# Altium integrated library TI Logic Buffer Line Driver.IntLib: 1053 symbols (part 1 of 17)
Pins are listed as number, name and electrical type; pins without a type are passive.

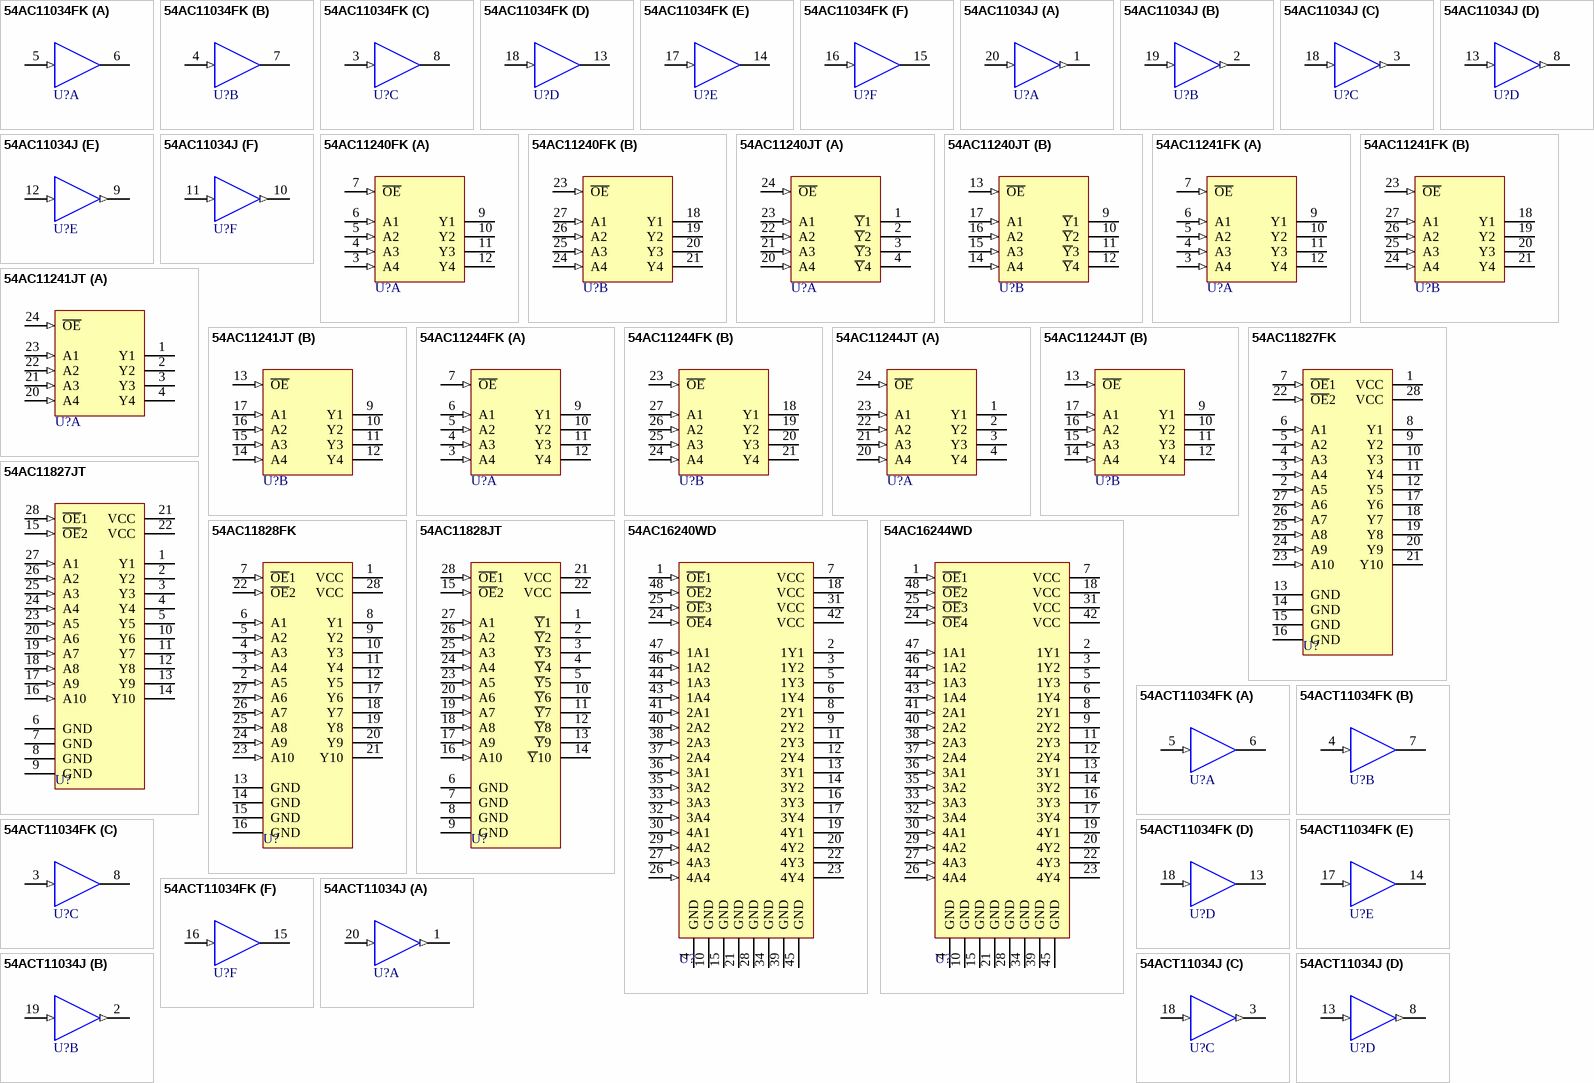
[diagram p0: symbols 54AC11034FK to 54ACT11034J]

## 54AC11034FK
designator U?
Hex Non-Inverter; Package Information: Latest Revision: 1998; Note: Pins No 2 and 19 are not connected; Published: 8-Jun-2000; Revision: 17-Jul-2002: Re-released for DXP Platform.; Datasheet: Latest Revision: Apr-1993; Package Reference: FK020; Publisher: Altium Limited
footprint FK020 (Leadless Chip Carrier; 20 Terminals; Body 8.9 x 8.9 mm)
signal-integrity model 54AC11034FK
pins on every part: 1 VCC (power) hidden to VCC, 9 GND (power) hidden to GND, 10 GND (power) hidden to GND, 11 GND (power) hidden to GND, 12 GND (power) hidden to GND, 20 VCC (power) hidden to VCC
part A pins: 5 A (in), 6 Y (hiz)
part B pins: 4 A (in), 7 Y (hiz)
part C pins: 3 A (in), 8 Y (hiz)
part D pins: 13 Y (hiz), 18 A (in)
part E pins: 14 Y (hiz), 17 A (in)
part F pins: 15 Y (hiz), 16 A (in)

## 54AC11034J
designator U?
Hex Non-Inverter; Revision 1: 16-Jan-2001: Symbol size reduced. Output electrical type changed from HiZ to Output.; Revision 2: 17-Jul-2002: Re-released for DXP Platform.; Package Information: Latest Revision: Jun-1999; Published: 8-Jun-2000; Datasheet: Latest Revision: Apr-1993; Package Reference: J020; Publisher: Altium Limited
footprint J020 (DIP; 20 Leads; Row Spacing 7.62 mm; Pitch 2.54 mm)
signal-integrity model 54AC11034J
pins on every part: 4 GND (power) hidden to GND, 5 GND (power) hidden to GND, 6 GND (power) hidden to GND, 7 GND (power) hidden to GND, 15 VCC (power) hidden to VCC, 16 VCC (power) hidden to VCC
part A pins: 1 Y (out), 20 A (in)
part B pins: 2 Y (out), 19 A (in)
part C pins: 3 Y (out), 18 A (in)
part D pins: 8 Y (out), 13 A (in)
part E pins: 9 Y (out), 12 A (in)
part F pins: 10 Y (out), 11 A (in)

## 54AC11240FK
designator U?
Octal Buffer and Line Driver with 3-State Outputs; Package Information: Latest Revision: 1998; Note: Pins No 1,8,15 and 22 are not connected; Published: 8-Jun-2000; Revision: 17-Jul-2002: Re-released for DXP Platform.; Datasheet: 1990 Advanced CMOS Logic Data Book (Mar-1990); Package Reference: FK028D; Publisher: Altium Limited
footprint FK028D (Leadless Chip Carrier; 28 Terminals; Body 11.4 x 11.4 mm)
signal-integrity model 54AC11240FK
pins on every part: 2 VCC (power) hidden to VCC, 13 GND (power) hidden to GND, 14 GND (power) hidden to GND, 16 GND (power) hidden to GND, 17 GND (power) hidden to GND, 28 VCC (power) hidden to VCC
part A pins: 3 A4 (in), 4 A3 (in), 5 A2 (in), 6 A1 (in), 7 ~{OE} (in), 9 Y1 (hiz), 10 Y2 (hiz), 11 Y3 (hiz), 12 Y4 (hiz)
part B pins: 18 Y1 (hiz), 19 Y2 (hiz), 20 Y3 (hiz), 21 Y4 (hiz), 23 ~{OE} (in), 24 A4 (in), 25 A3 (in), 26 A2 (in), 27 A1 (in)

## 54AC11240JT
designator U?
Octal Buffer and Line Driver with 3-State Outputs; Package Information: Latest Revision: Jan-1997; Code - JEDEC: MS-001-AF; Published: 8-Jun-2000; Revision: 17-Jul-2002: Re-released for DXP Platform.; Datasheet: 1990 Advanced CMOS Logic Data Book (Mar-1990); Package Reference: JT024D; Publisher: Altium Limited
footprint JT024D (DIP; 24 Leads; Row Spacing 7.62 mm; Pitch 2.54 mm)
signal-integrity model 54AC11240JT
pins on every part: 5 GND (power) hidden to GND, 6 GND (power) hidden to GND, 7 GND (power) hidden to GND, 8 GND (power) hidden to GND, 18 VCC (power) hidden to VCC, 19 VCC (power) hidden to VCC
part A pins: 1 ~{Y}1 (hiz), 2 ~{Y}2 (hiz), 3 ~{Y}3 (hiz), 4 ~{Y}4 (hiz), 20 A4 (in), 21 A3 (in), 22 A2 (in), 23 A1 (in), 24 ~{OE} (in)
part B pins: 9 ~{Y}1 (hiz), 10 ~{Y}2 (hiz), 11 ~{Y}3 (hiz), 12 ~{Y}4 (hiz), 13 ~{OE} (in), 14 A4 (in), 15 A3 (in), 16 A2 (in), 17 A1 (in)

## 54AC11241FK
designator U?
Octal Buffer/Line Driver with 3-State Outputs; Package Information: Latest Revision: 1998; Note: Pins No 1,8,15 and 22 are not connected; Published: 8-Jun-2000; Revision: 17-Jul-2002: Re-released for DXP Platform.; Datasheet: Latest Revision: Apr-1993; Package Reference: FK028; Publisher: Altium Limited
footprint FK028 (Leadless Chip Carrier; 28 Terminals; Body 11.4 x 11.4 mm)
signal-integrity model 54AC11241FK
pins on every part: 2 VCC (power) hidden to VCC, 13 GND (power) hidden to GND, 14 GND (power) hidden to GND, 16 GND (power) hidden to GND, 17 GND (power) hidden to GND, 28 VCC (power) hidden to VCC
part A pins: 3 A4 (in), 4 A3 (in), 5 A2 (in), 6 A1 (in), 7 ~{OE} (in), 9 Y1 (hiz), 10 Y2 (hiz), 11 Y3 (hiz), 12 Y4 (hiz)
part B pins: 18 Y1 (hiz), 19 Y2 (hiz), 20 Y3 (hiz), 21 Y4 (hiz), 23 ~{OE} (in), 24 A4 (in), 25 A3 (in), 26 A2 (in), 27 A1 (in)

## 54AC11241JT
designator U?
Octal Buffer/Line Driver with 3-State Outputs; Package Information: Latest Revision: Jan-1997; Code - JEDEC: MS-001-AF; Published: 8-Jun-2000; Revision: 17-Jul-2002: Re-released for DXP Platform.; Datasheet: Latest Revision: Apr-1993; Package Reference: JT024; Publisher: Altium Limited
footprint JT024 (DIP; 24 Leads; Row Spacing 7.62 mm; Pitch 2.54 mm)
signal-integrity model 54AC11241JT
pins on every part: 5 GND (power) hidden to GND, 6 GND (power) hidden to GND, 7 GND (power) hidden to GND, 8 GND (power) hidden to GND, 18 VCC (power) hidden to VCC, 19 VCC (power) hidden to VCC
part A pins: 1 Y1 (hiz), 2 Y2 (hiz), 3 Y3 (hiz), 4 Y4 (hiz), 20 A4 (in), 21 A3 (in), 22 A2 (in), 23 A1 (in), 24 ~{OE} (in)
part B pins: 9 Y1 (hiz), 10 Y2 (hiz), 11 Y3 (hiz), 12 Y4 (hiz), 13 ~{OE} (in), 14 A4 (in), 15 A3 (in), 16 A2 (in), 17 A1 (in)

## 54AC11244FK
designator U?
Octal Buffer and Line Driver with 3-State Outputs; Package Information: Latest Revision: 1998; Note: Pins 1, 8, 15, and 22 are not connected; Published: 8-Jun-2000; Revision: 17-Jul-2002: Re-released for DXP Platform.; Datasheet: 1990 Advanced CMOS Logic Data Book (Mar-1990); Package Reference: FK028D; Publisher: Altium Limited
footprint FK028D (Leadless Chip Carrier; 28 Terminals; Body 11.4 x 11.4 mm)
signal-integrity model 54AC11244FK
pins on every part: 2 VCC (power) hidden to VCC, 13 GND (power) hidden to GND, 14 GND (power) hidden to GND, 16 GND (power) hidden to GND, 17 GND (power) hidden to GND, 28 VCC (power) hidden to VCC
part A pins: 3 A4 (in), 4 A3 (in), 5 A2 (in), 6 A1 (in), 7 ~{OE} (in), 9 Y1 (hiz), 10 Y2 (hiz), 11 Y3 (hiz), 12 Y4 (hiz)
part B pins: 18 Y1 (hiz), 19 Y2 (hiz), 20 Y3 (hiz), 21 Y4 (hiz), 23 ~{OE} (in), 24 A4 (in), 25 A3 (in), 26 A2 (in), 27 A1 (in)

## 54AC11244JT
designator U?
Octal Buffer and Line Driver with 3-State Outputs; Package Information: Latest Revision: Jan-1997; Code - JEDEC: MS-001-AF; Published: 8-Jun-2000; Revision: 17-Jul-2002: Re-released for DXP Platform.; Datasheet: 1990 Advanced CMOS Logic Data Book (Mar-1990); Package Reference: JT024D; Publisher: Altium Limited
footprint JT024D (DIP; 24 Leads; Row Spacing 7.62 mm; Pitch 2.54 mm)
signal-integrity model 54AC11244JT
pins on every part: 5 GND (power) hidden to GND, 6 GND (power) hidden to GND, 7 GND (power) hidden to GND, 8 GND (power) hidden to GND, 18 VCC (power) hidden to VCC, 19 VCC (power) hidden to VCC
part A pins: 1 Y1 (hiz), 2 Y2 (hiz), 3 Y3 (hiz), 4 Y4 (hiz), 20 A4 (in), 21 A3 (in), 22 A2 (in), 23 A1 (in), 24 ~{OE} (in)
part B pins: 9 Y1 (hiz), 10 Y2 (hiz), 11 Y3 (hiz), 12 Y4 (hiz), 13 ~{OE} (in), 14 A4 (in), 15 A3 (in), 16 A2 (in), 17 A1 (in)

## 54AC11827FK
designator U?
10-Bit Buffer/Bus Driver with 3-State Outputs; Package Information: Latest Revision: 1998; Published: 8-Jun-2000; Revision: 17-Jul-2002: Re-released for DXP Platform.; Datasheet: 1990 Advanced CMOS Logic Data Book (Mar-1990); Package Reference: FK028D; Publisher: Altium Limited
footprint FK028D (Leadless Chip Carrier; 28 Terminals; Body 11.4 x 11.4 mm)
signal-integrity model 54AC11827FK
pins: 1 VCC (power), 2 A5 (in), 3 A4 (in), 4 A3 (in), 5 A2 (in), 6 A1 (in), 7 ~{OE}1 (in), 8 Y1 (hiz), 9 Y2 (hiz), 10 Y3 (hiz), 11 Y4 (hiz), 12 Y5 (hiz), 13 GND (power), 14 GND (power), 15 GND (power), 16 GND (power), 17 Y6 (hiz), 18 Y7 (hiz), 19 Y8 (hiz), 20 Y9 (hiz), 21 Y10 (hiz), 22 ~{OE}2 (in), 23 A10 (in), 24 A9 (in), 25 A8 (in), 26 A7 (in), 27 A6 (in), 28 VCC (power)

## 54AC11827JT
designator U?
10-Bit Buffer/Bus Driver with 3-State Outputs; Package Information: Latest Revision: Jan-1997; Published: 8-Jun-2000; Revision: 17-Jul-2002: Re-released for DXP Platform.; Datasheet: 1990 Advanced CMOS Logic Data Book (Mar-1990); Package Reference: JT028D; Publisher: Altium Limited
footprint JT028D (DIP; 28 Leads; Row Spacing 7.62 mm; Pitch 2.54 mm)
signal-integrity model 54AC11827JT
pins: 1 Y1 (hiz), 2 Y2 (hiz), 3 Y3 (hiz), 4 Y4 (hiz), 5 Y5 (hiz), 6 GND (power), 7 GND (power), 8 GND (power), 9 GND (power), 10 Y6 (hiz), 11 Y7 (hiz), 12 Y8 (hiz), 13 Y9 (hiz), 14 Y10 (hiz), 15 ~{OE}2 (in), 16 A10 (in), 17 A9 (in), 18 A8 (in), 19 A7 (in), 20 A6 (in), 21 VCC (power), 22 VCC (power), 23 A5 (in), 24 A4 (in), 25 A3 (in), 26 A2 (in), 27 A1 (in), 28 ~{OE}1 (in)

## 54AC11828FK
designator U?
10-Bit Buffer/Bus Driver with 3-State Outputs; Package Information: Latest Revision: 1998; Published: 8-Jun-2000; Revision: 17-Jul-2002: Re-released for DXP Platform.; Datasheet: 1990 Advanced CMOS Logic Data Book (Mar-1990); Package Reference: FK028D; Publisher: Altium Limited
footprint FK028D (Leadless Chip Carrier; 28 Terminals; Body 11.4 x 11.4 mm)
signal-integrity model 54AC11828FK
pins: 1 VCC (power), 2 A5 (in), 3 A4 (in), 4 A3 (in), 5 A2 (in), 6 A1 (in), 7 ~{OE}1 (in), 8 Y1 (hiz), 9 Y2 (hiz), 10 Y3 (hiz), 11 Y4 (hiz), 12 Y5 (hiz), 13 GND (power), 14 GND (power), 15 GND (power), 16 GND (power), 17 Y6 (hiz), 18 Y7 (hiz), 19 Y8 (hiz), 20 Y9 (hiz), 21 Y10 (hiz), 22 ~{OE}2 (in), 23 A10 (in), 24 A9 (in), 25 A8 (in), 26 A7 (in), 27 A6 (in), 28 VCC (power)

## 54AC11828JT
designator U?
10-Bit Buffer/Bus Driver with 3-State Outputs; Package Information: Latest Revision: Jan-1997; Published: 8-Jun-2000; Revision: 17-Jul-2002: Re-released for DXP Platform.; Datasheet: 1990 Advanced CMOS Logic Data Book (Mar-1990); Package Reference: JT028D; Publisher: Altium Limited
footprint JT028D (DIP; 28 Leads; Row Spacing 7.62 mm; Pitch 2.54 mm)
signal-integrity model 54AC11828JT
pins: 1 ~{Y}1 (hiz), 2 ~{Y}2 (hiz), 3 ~{Y}3 (hiz), 4 ~{Y}4 (hiz), 5 ~{Y}5 (hiz), 6 GND (power), 7 GND (power), 8 GND (power), 9 GND (power), 10 ~{Y}6 (hiz), 11 ~{Y}7 (hiz), 12 ~{Y}8 (hiz), 13 ~{Y}9 (hiz), 14 ~{Y}10 (hiz), 15 ~{OE}2 (in), 16 A10 (in), 17 A9 (in), 18 A8 (in), 19 A7 (in), 20 A6 (in), 21 VCC (power), 22 VCC (power), 23 A5 (in), 24 A4 (in), 25 A3 (in), 26 A2 (in), 27 A1 (in), 28 ~{OE}1 (in)

## 54AC16240WD
designator U?
16-Bit Bus Driver with 3-State Outputs; Package Information: Latest Revision: Jan-1998; Code - JEDEC: MO-146-AA; Published: 8-Jun-2000; Revision: 17-Jul-2002: Re-released for DXP Platform.; Datasheet: Latest Revision: Oct-1996; Package Reference: WD048; Publisher: Altium Limited
footprint WD048 (DFP; 48 Leads; Body 16.3 x 9.9 mm (LxW max); Pitch 0.635 mm)
signal-integrity model 54AC16240WD
pins: 1 ~{OE}1 (in), 2 1Y1 (hiz), 3 1Y2 (hiz), 4 GND (power), 5 1Y3 (hiz), 6 1Y4 (hiz), 7 VCC (power), 8 2Y1 (hiz), 9 2Y2 (hiz), 10 GND (power), 11 2Y3 (hiz), 12 2Y4 (hiz), 13 3Y1 (hiz), 14 3Y2 (hiz), 15 GND (power), 16 3Y3 (hiz), 17 3Y4 (hiz), 18 VCC (power), 19 4Y1 (hiz), 20 4Y2 (hiz), 21 GND (power), 22 4Y3 (hiz), 23 4Y4 (hiz), 24 ~{OE}4 (in), 25 ~{OE}3 (in), 26 4A4 (in), 27 4A3 (in), 28 GND (power), 29 4A2 (in), 30 4A1 (in), 31 VCC (power), 32 3A4 (in), 33 3A3 (in), 34 GND (power), 35 3A2 (in), 36 3A1 (in), 37 2A4 (in), 38 2A3 (in), 39 GND (power), 40 2A2 (in), 41 2A1 (in), 42 VCC (power), 43 1A4 (in), 44 1A3 (in), 45 GND (power), 46 1A2 (in), 47 1A1 (in), 48 ~{OE}2 (in)

## 54AC16244WD
designator U?
16-Bit Buffer/Line Driver with 3-State Outputs; Package Information: Latest Revision: Jan-1998; Code - JEDEC: MO-146-AA; Published: 8-Jun-2000; Revision: 17-Jul-2002: Re-released for DXP Platform.; Datasheet: Latest Revision: Apr-1996; Package Reference: WD048; Publisher: Altium Limited
footprint WD048 (DFP; 48 Leads; Body 16.3 x 9.9 mm (LxW max); Pitch 0.635 mm)
signal-integrity model 54AC16244WD
pins: 1 ~{OE}1 (in), 2 1Y1 (hiz), 3 1Y2 (hiz), 4 GND (power), 5 1Y3 (hiz), 6 1Y4 (hiz), 7 VCC (power), 8 2Y1 (hiz), 9 2Y2 (hiz), 10 GND (power), 11 2Y3 (hiz), 12 2Y4 (hiz), 13 3Y1 (hiz), 14 3Y2 (hiz), 15 GND (power), 16 3Y3 (hiz), 17 3Y4 (hiz), 18 VCC (power), 19 4Y1 (hiz), 20 4Y2 (hiz), 21 GND (power), 22 4Y3 (hiz), 23 4Y4 (hiz), 24 ~{OE}4 (in), 25 ~{OE}3 (in), 26 4A4 (in), 27 4A3 (in), 28 GND (power), 29 4A2 (in), 30 4A1 (in), 31 VCC (power), 32 3A4 (in), 33 3A3 (in), 34 GND (power), 35 3A2 (in), 36 3A1 (in), 37 2A4 (in), 38 2A3 (in), 39 GND (power), 40 2A2 (in), 41 2A1 (in), 42 VCC (power), 43 1A4 (in), 44 1A3 (in), 45 GND (power), 46 1A2 (in), 47 1A1 (in), 48 ~{OE}2 (in)

## 54ACT11034FK
designator U?
Hex Non-Inverter; Package Information: Latest Revision: 1998; Note: Pins No 2 and 19 are not connected; Published: 8-Jun-2000; Revision: 17-Jul-2002: Re-released for DXP Platform.; Datasheet: Latest Revision: Apr-1993; Package Reference: FK020; Publisher: Altium Limited
footprint FK020 (Leadless Chip Carrier; 20 Terminals; Body 8.9 x 8.9 mm)
signal-integrity model 54ACT11034FK
pins on every part: 1 VCC (power) hidden to VCC, 9 GND (power) hidden to GND, 10 GND (power) hidden to GND, 11 GND (power) hidden to GND, 12 GND (power) hidden to GND, 20 VCC (power) hidden to VCC
part A pins: 5 A (in), 6 Y (hiz)
part B pins: 4 A (in), 7 Y (hiz)
part C pins: 3 A (in), 8 Y (hiz)
part D pins: 13 Y (hiz), 18 A (in)
part E pins: 14 Y (hiz), 17 A (in)
part F pins: 15 Y (hiz), 16 A (in)

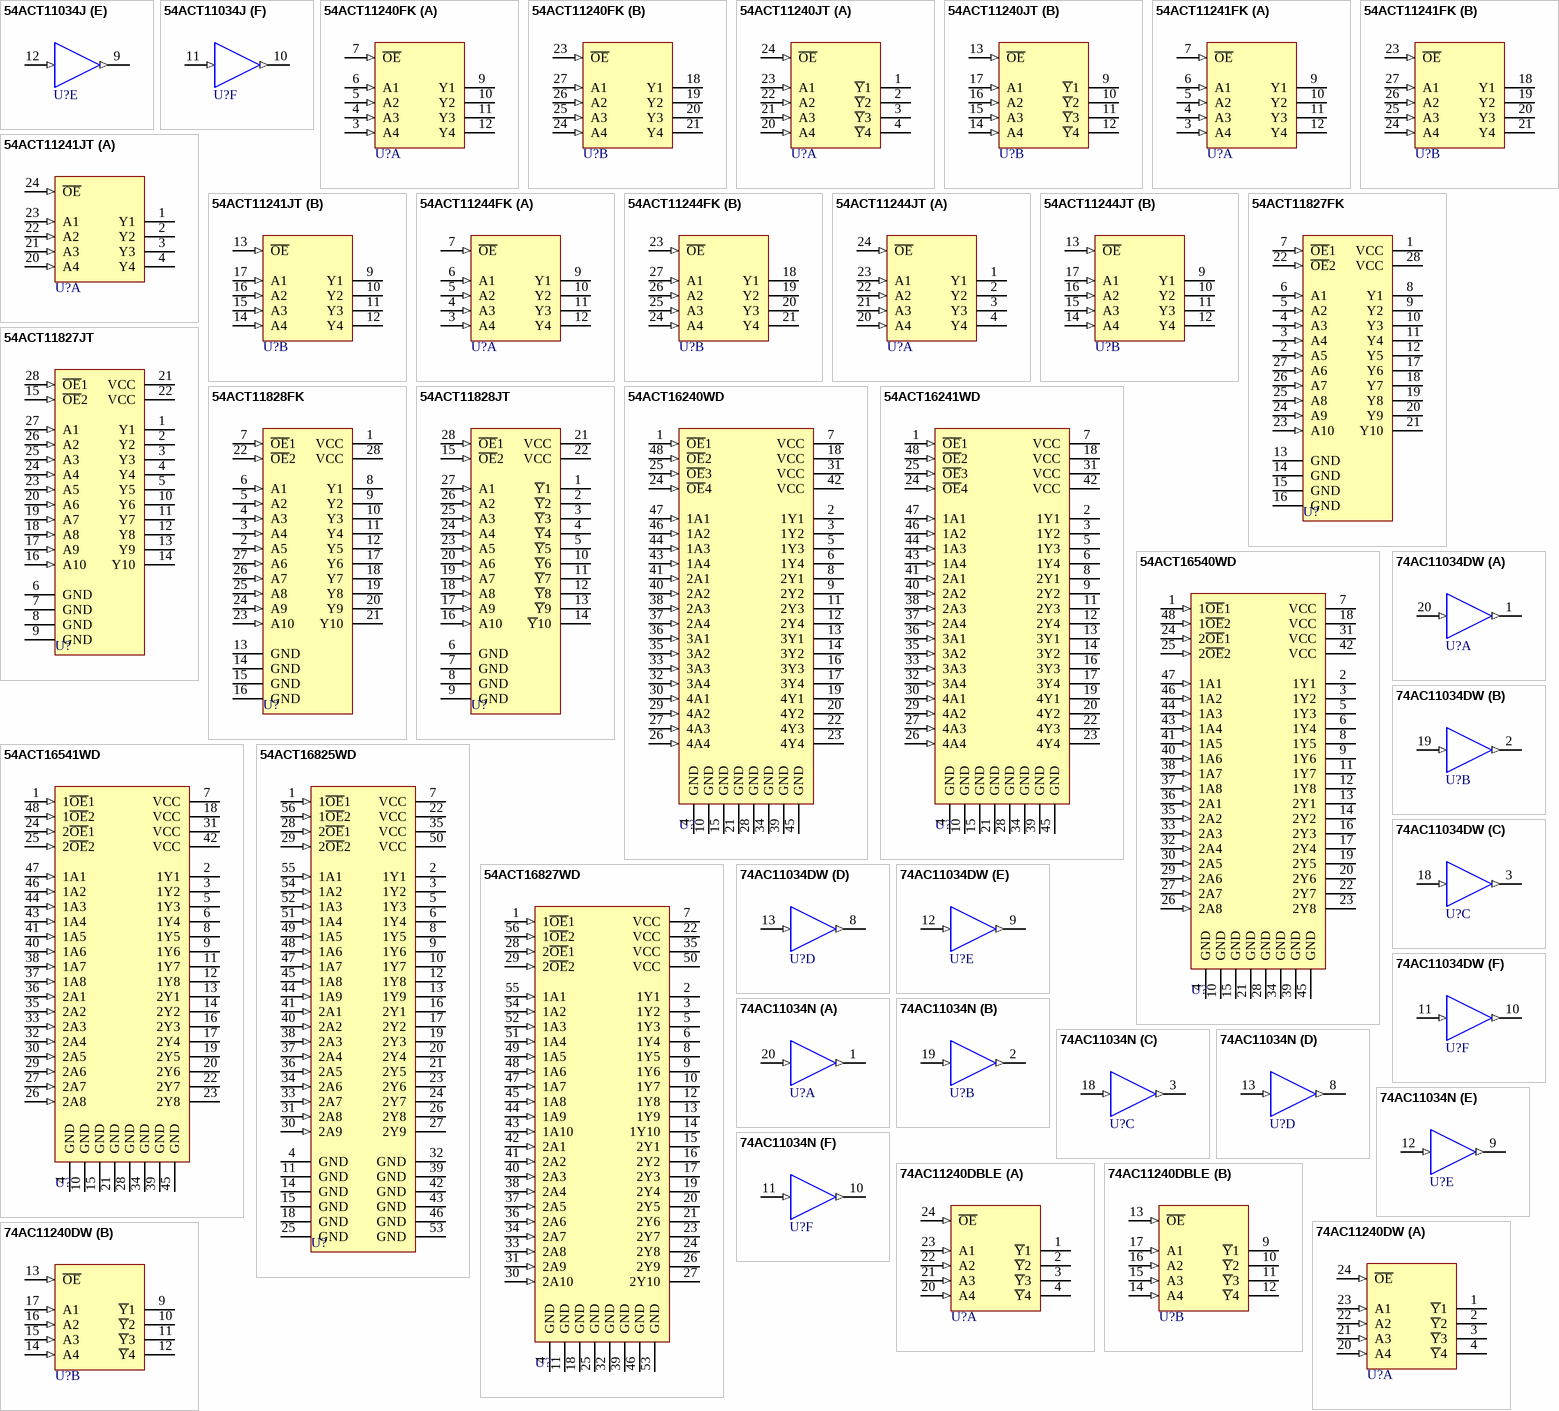
[diagram p1: symbols 54ACT11034J to 74AC11240DW]

## 54ACT11034J
designator U?
Hex Non-Inverter; Revision 1: 16-Jan-2001: Symbol size reduced. Output electrical type changed from HiZ to Output.; Revision 2: 17-Jul-2002: Re-released for DXP Platform.; Package Information: Latest Revision: Jun-1999; Published: 8-Jun-2000; Datasheet: Latest Revision: Apr-1993; Package Reference: J020; Publisher: Altium Limited
footprint J020 (DIP; 20 Leads; Row Spacing 7.62 mm; Pitch 2.54 mm)
signal-integrity model 54ACT11034J
pins on every part: 4 GND (power) hidden to GND, 5 GND (power) hidden to GND, 6 GND (power) hidden to GND, 7 GND (power) hidden to GND, 15 VCC (power) hidden to VCC, 16 VCC (power) hidden to VCC
part A pins: 1 Y (out), 20 A (in)
part B pins: 2 Y (out), 19 A (in)
part C pins: 3 Y (out), 18 A (in)
part D pins: 8 Y (out), 13 A (in)
part E pins: 9 Y (out), 12 A (in)
part F pins: 10 Y (out), 11 A (in)

## 54ACT11240FK
designator U?
Octal Buffer and Line Driver with 3-State Outputs; Package Information: Latest Revision: 1998; Note: Pins No 1,8,15 and 22 are not connected; Published: 8-Jun-2000; Revision: 17-Jul-2002: Re-released for DXP Platform.; Datasheet: 1990 Advanced CMOS Logic Data Book (Mar-1990); Package Reference: FK028D; Publisher: Altium Limited
footprint FK028D (Leadless Chip Carrier; 28 Terminals; Body 11.4 x 11.4 mm)
signal-integrity model 54ACT11240FK
pins on every part: 2 VCC (power) hidden to VCC, 13 GND (power) hidden to GND, 14 GND (power) hidden to GND, 16 GND (power) hidden to GND, 17 GND (power) hidden to GND, 28 VCC (power) hidden to VCC
part A pins: 3 A4 (in), 4 A3 (in), 5 A2 (in), 6 A1 (in), 7 ~{OE} (in), 9 Y1 (hiz), 10 Y2 (hiz), 11 Y3 (hiz), 12 Y4 (hiz)
part B pins: 18 Y1 (hiz), 19 Y2 (hiz), 20 Y3 (hiz), 21 Y4 (hiz), 23 ~{OE} (in), 24 A4 (in), 25 A3 (in), 26 A2 (in), 27 A1 (in)

## 54ACT11240JT
designator U?
Octal Buffer and Line Driver with 3-State Outputs; Package Information: Latest Revision: Jan-1997; Code - JEDEC: MS-001-AF; Published: 8-Jun-2000; Revision: 17-Jul-2002: Re-released for DXP Platform.; Datasheet: 1990 Advanced CMOS Logic Data Book (Mar-1990); Package Reference: JT024D; Publisher: Altium Limited
footprint JT024D (DIP; 24 Leads; Row Spacing 7.62 mm; Pitch 2.54 mm)
signal-integrity model 54ACT11240JT
pins on every part: 5 GND (power) hidden to GND, 6 GND (power) hidden to GND, 7 GND (power) hidden to GND, 8 GND (power) hidden to GND, 18 VCC (power) hidden to VCC, 19 VCC (power) hidden to VCC
part A pins: 1 ~{Y}1 (hiz), 2 ~{Y}2 (hiz), 3 ~{Y}3 (hiz), 4 ~{Y}4 (hiz), 20 A4 (in), 21 A3 (in), 22 A2 (in), 23 A1 (in), 24 ~{OE} (in)
part B pins: 9 ~{Y}1 (hiz), 10 ~{Y}2 (hiz), 11 ~{Y}3 (hiz), 12 ~{Y}4 (hiz), 13 ~{OE} (in), 14 A4 (in), 15 A3 (in), 16 A2 (in), 17 A1 (in)

## 54ACT11241FK
designator U?
Octal Buffer/Line Drivers with 3-State Outputs; Package Information: Latest Revision: 1998; Note: Pins No 1,8,15 and 22 are not connected; Published: 8-Jun-2000; Revision: 17-Jul-2002: Re-released for DXP Platform.; Datasheet: Latest Revision: Apr-1993; Package Reference: FK028; Publisher: Altium Limited
footprint FK028 (Leadless Chip Carrier; 28 Terminals; Body 11.4 x 11.4 mm)
signal-integrity model 54ACT11241FK
pins on every part: 2 VCC (power) hidden to VCC, 13 GND (power) hidden to GND, 14 GND (power) hidden to GND, 16 GND (power) hidden to GND, 17 GND (power) hidden to GND, 28 VCC (power) hidden to VCC
part A pins: 3 A4 (in), 4 A3 (in), 5 A2 (in), 6 A1 (in), 7 ~{OE} (in), 9 Y1 (hiz), 10 Y2 (hiz), 11 Y3 (hiz), 12 Y4 (hiz)
part B pins: 18 Y1 (hiz), 19 Y2 (hiz), 20 Y3 (hiz), 21 Y4 (hiz), 23 ~{OE} (in), 24 A4 (in), 25 A3 (in), 26 A2 (in), 27 A1 (in)

## 54ACT11241JT
designator U?
Octal Buffer/Line Drivers with 3-State Outputs; Package Information: Latest Revision: Jan-1997; Code - JEDEC: MS-001-AF; Published: 8-Jun-2000; Revision: 17-Jul-2002: Re-released for DXP Platform.; Datasheet: Latest Revision: Apr-1993; Package Reference: JT024; Publisher: Altium Limited
footprint JT024 (DIP; 24 Leads; Row Spacing 7.62 mm; Pitch 2.54 mm)
signal-integrity model 54ACT11241JT
pins on every part: 5 GND (power) hidden to GND, 6 GND (power) hidden to GND, 7 GND (power) hidden to GND, 8 GND (power) hidden to GND, 18 VCC (power) hidden to VCC, 19 VCC (power) hidden to VCC
part A pins: 1 Y1 (hiz), 2 Y2 (hiz), 3 Y3 (hiz), 4 Y4 (hiz), 20 A4 (in), 21 A3 (in), 22 A2 (in), 23 A1 (in), 24 ~{OE} (in)
part B pins: 9 Y1 (hiz), 10 Y2 (hiz), 11 Y3 (hiz), 12 Y4 (hiz), 13 ~{OE} (in), 14 A4 (in), 15 A3 (in), 16 A2 (in), 17 A1 (in)

## 54ACT11244FK
designator U?
Octal Buffer and Line Driver with 3-State Outputs; Package Information: Latest Revision: 1998; Note: Pins 1, 8, 15, and 22 are not connected; Published: 8-Jun-2000; Revision: 17-Jul-2002: Re-released for DXP Platform.; Datasheet: 1990 Advanced CMOS Logic Data Book (Mar-1990); Package Reference: FK028D; Publisher: Altium Limited
footprint FK028D (Leadless Chip Carrier; 28 Terminals; Body 11.4 x 11.4 mm)
signal-integrity model 54ACT11244FK
pins on every part: 2 VCC (power) hidden to VCC, 13 GND (power) hidden to GND, 14 GND (power) hidden to GND, 16 GND (power) hidden to GND, 17 GND (power) hidden to GND, 28 VCC (power) hidden to VCC
part A pins: 3 A4 (in), 4 A3 (in), 5 A2 (in), 6 A1 (in), 7 ~{OE} (in), 9 Y1 (hiz), 10 Y2 (hiz), 11 Y3 (hiz), 12 Y4 (hiz)
part B pins: 18 Y1 (hiz), 19 Y2 (hiz), 20 Y3 (hiz), 21 Y4 (hiz), 23 ~{OE} (in), 24 A4 (in), 25 A3 (in), 26 A2 (in), 27 A1 (in)

## 54ACT11244JT
designator U?
Octal Buffer and Line Driver with 3-State Outputs; Package Information: Latest Revision: Jan-1997; Code - JEDEC: MS-001-AF; Published: 8-Jun-2000; Revision: 17-Jul-2002: Re-released for DXP Platform.; Datasheet: 1990 Advanced CMOS Logic Data Book (Mar-1990); Package Reference: JT024D; Publisher: Altium Limited
footprint JT024D (DIP; 24 Leads; Row Spacing 7.62 mm; Pitch 2.54 mm)
signal-integrity model 54ACT11244JT
pins on every part: 5 GND (power) hidden to GND, 6 GND (power) hidden to GND, 7 GND (power) hidden to GND, 8 GND (power) hidden to GND, 18 VCC (power) hidden to VCC, 19 VCC (power) hidden to VCC
part A pins: 1 Y1 (hiz), 2 Y2 (hiz), 3 Y3 (hiz), 4 Y4 (hiz), 20 A4 (in), 21 A3 (in), 22 A2 (in), 23 A1 (in), 24 ~{OE} (in)
part B pins: 9 Y1 (hiz), 10 Y2 (hiz), 11 Y3 (hiz), 12 Y4 (hiz), 13 ~{OE} (in), 14 A4 (in), 15 A3 (in), 16 A2 (in), 17 A1 (in)

## 54ACT11827FK
designator U?
10-Bit Buffer/Bus Driver with 3-State Outputs; Package Information: Latest Revision: 1998; Published: 8-Jun-2000; Revision: 17-Jul-2002: Re-released for DXP Platform.; Datasheet: Latest Revision: Apr-1993; Package Reference: FK028; Publisher: Altium Limited
footprint FK028 (Leadless Chip Carrier; 28 Terminals; Body 11.4 x 11.4 mm)
signal-integrity model 54ACT11827FK
pins: 1 VCC (power), 2 A5 (in), 3 A4 (in), 4 A3 (in), 5 A2 (in), 6 A1 (in), 7 ~{OE}1 (in), 8 Y1 (hiz), 9 Y2 (hiz), 10 Y3 (hiz), 11 Y4 (hiz), 12 Y5 (hiz), 13 GND (power), 14 GND (power), 15 GND (power), 16 GND (power), 17 Y6 (hiz), 18 Y7 (hiz), 19 Y8 (hiz), 20 Y9 (hiz), 21 Y10 (hiz), 22 ~{OE}2 (in), 23 A10 (in), 24 A9 (in), 25 A8 (in), 26 A7 (in), 27 A6 (in), 28 VCC (power)

## 54ACT11827JT
designator U?
10-Bit Buffer/Bus Driver with 3-State Outputs; Package Information: Latest Revision: Jan-1997; Published: 8-Jun-2000; Revision: 17-Jul-2002: Re-released for DXP Platform.; Datasheet: Latest Revision: Apr-1993; Package Reference: JT028; Publisher: Altium Limited
footprint JT028 (DIP; 28 Leads; Row Spacing 7.62 mm; Pitch 2.54 mm)
signal-integrity model 54ACT11827JT
pins: 1 Y1 (hiz), 2 Y2 (hiz), 3 Y3 (hiz), 4 Y4 (hiz), 5 Y5 (hiz), 6 GND (power), 7 GND (power), 8 GND (power), 9 GND (power), 10 Y6 (hiz), 11 Y7 (hiz), 12 Y8 (hiz), 13 Y9 (hiz), 14 Y10 (hiz), 15 ~{OE}2 (in), 16 A10 (in), 17 A9 (in), 18 A8 (in), 19 A7 (in), 20 A6 (in), 21 VCC (power), 22 VCC (power), 23 A5 (in), 24 A4 (in), 25 A3 (in), 26 A2 (in), 27 A1 (in), 28 ~{OE}1 (in)

## 54ACT11828FK
designator U?
10-Bit Buffer/Bus Driver with 3-State Outputs; Package Information: Latest Revision: 1998; Published: 8-Jun-2000; Revision: 17-Jul-2002: Re-released for DXP Platform.; Datasheet: Latest Revision: Apr-1993; Package Reference: FK028; Publisher: Altium Limited
footprint FK028 (Leadless Chip Carrier; 28 Terminals; Body 11.4 x 11.4 mm)
signal-integrity model 54ACT11828FK
pins: 1 VCC (power), 2 A5 (in), 3 A4 (in), 4 A3 (in), 5 A2 (in), 6 A1 (in), 7 ~{OE}1 (in), 8 Y1 (hiz), 9 Y2 (hiz), 10 Y3 (hiz), 11 Y4 (hiz), 12 Y5 (hiz), 13 GND (power), 14 GND (power), 15 GND (power), 16 GND (power), 17 Y6 (hiz), 18 Y7 (hiz), 19 Y8 (hiz), 20 Y9 (hiz), 21 Y10 (hiz), 22 ~{OE}2 (in), 23 A10 (in), 24 A9 (in), 25 A8 (in), 26 A7 (in), 27 A6 (in), 28 VCC (power)

## 54ACT11828JT
designator U?
10-Bit Buffer/Bus Driver with 3-State Outputs; Package Information: Latest Revision: Jan-1997; Published: 8-Jun-2000; Revision: 17-Jul-2002: Re-released for DXP Platform.; Datasheet: Latest Revision: Apr-1993; Package Reference: JT028; Publisher: Altium Limited
footprint JT028 (DIP; 28 Leads; Row Spacing 7.62 mm; Pitch 2.54 mm)
signal-integrity model 54ACT11828JT
pins: 1 ~{Y}1 (hiz), 2 ~{Y}2 (hiz), 3 ~{Y}3 (hiz), 4 ~{Y}4 (hiz), 5 ~{Y}5 (hiz), 6 GND (power), 7 GND (power), 8 GND (power), 9 GND (power), 10 ~{Y}6 (hiz), 11 ~{Y}7 (hiz), 12 ~{Y}8 (hiz), 13 ~{Y}9 (hiz), 14 ~{Y}10 (hiz), 15 ~{OE}2 (in), 16 A10 (in), 17 A9 (in), 18 A8 (in), 19 A7 (in), 20 A6 (in), 21 VCC (power), 22 VCC (power), 23 A5 (in), 24 A4 (in), 25 A3 (in), 26 A2 (in), 27 A1 (in), 28 ~{OE}1 (in)

## 54ACT16240WD
designator U?
16-Bit Buffer/Driver with 3-State Outputs; Package Information: Latest Revision: Jan-1998; Code - JEDEC: MO-146-AA; Published: 8-Jun-2000; Revision: 17-Jul-2002: Re-released for DXP Platform.; Datasheet: Latest Revision: Apr-1993; Package Reference: WD048; Publisher: Altium Limited
footprint WD048 (DFP; 48 Leads; Body 16.3 x 9.9 mm (LxW max); Pitch 0.635 mm)
signal-integrity model 54ACT16240WD
pins: 1 ~{OE}1 (in), 2 1Y1 (hiz), 3 1Y2 (hiz), 4 GND (power), 5 1Y3 (hiz), 6 1Y4 (hiz), 7 VCC (power), 8 2Y1 (hiz), 9 2Y2 (hiz), 10 GND (power), 11 2Y3 (hiz), 12 2Y4 (hiz), 13 3Y1 (hiz), 14 3Y2 (hiz), 15 GND (power), 16 3Y3 (hiz), 17 3Y4 (hiz), 18 VCC (power), 19 4Y1 (hiz), 20 4Y2 (hiz), 21 GND (power), 22 4Y3 (hiz), 23 4Y4 (hiz), 24 ~{OE}4 (in), 25 ~{OE}3 (in), 26 4A4 (in), 27 4A3 (in), 28 GND (power), 29 4A2 (in), 30 4A1 (in), 31 VCC (power), 32 3A4 (in), 33 3A3 (in), 34 GND (power), 35 3A2 (in), 36 3A1 (in), 37 2A4 (in), 38 2A3 (in), 39 GND (power), 40 2A2 (in), 41 2A1 (in), 42 VCC (power), 43 1A4 (in), 44 1A3 (in), 45 GND (power), 46 1A2 (in), 47 1A1 (in), 48 ~{OE}2 (in)

## 54ACT16241WD
designator U?
16-Bit Buffer/Driver with 3-State Outputs; Package Information: Latest Revision: Jan-1998; Code - JEDEC: MO-146-AA; Published: 8-Jun-2000; Revision: 17-Jul-2002: Re-released for DXP Platform.; Datasheet: Latest Revision: Apr-1996; Package Reference: WD048; Publisher: Altium Limited
footprint WD048 (DFP; 48 Leads; Body 16.3 x 9.9 mm (LxW max); Pitch 0.635 mm)
signal-integrity model 54ACT16241WD
pins: 1 ~{OE}1 (in), 2 1Y1 (hiz), 3 1Y2 (hiz), 4 GND (power), 5 1Y3 (hiz), 6 1Y4 (hiz), 7 VCC (power), 8 2Y1 (hiz), 9 2Y2 (hiz), 10 GND (power), 11 2Y3 (hiz), 12 2Y4 (hiz), 13 3Y1 (hiz), 14 3Y2 (hiz), 15 GND (power), 16 3Y3 (hiz), 17 3Y4 (hiz), 18 VCC (power), 19 4Y1 (hiz), 20 4Y2 (hiz), 21 GND (power), 22 4Y3 (hiz), 23 4Y4 (hiz), 24 ~{OE}4 (in), 25 ~{OE}3 (in), 26 4A4 (in), 27 4A3 (in), 28 GND (power), 29 4A2 (in), 30 4A1 (in), 31 VCC (power), 32 3A4 (in), 33 3A3 (in), 34 GND (power), 35 3A2 (in), 36 3A1 (in), 37 2A4 (in), 38 2A3 (in), 39 GND (power), 40 2A2 (in), 41 2A1 (in), 42 VCC (power), 43 1A4 (in), 44 1A3 (in), 45 GND (power), 46 1A2 (in), 47 1A1 (in), 48 ~{OE}2 (in)

## 54ACT16540WD
designator U?
16-Bit Buffer/Driver with 3-State Outputs; Package Information: Latest Revision: Jan-1998; Code - JEDEC: MO-146-AA; Published: 8-Jun-2000; Revision: 17-Jul-2002: Re-released for DXP Platform.; Datasheet: Latest Revision: Apr-1996; Package Reference: WD048; Publisher: Altium Limited
footprint WD048 (DFP; 48 Leads; Body 16.3 x 9.9 mm (LxW max); Pitch 0.635 mm)
signal-integrity model 54ACT16540WD
pins: 1 1~{OE}1 (in), 2 1Y1 (hiz), 3 1Y2 (hiz), 4 GND (power), 5 1Y3 (hiz), 6 1Y4 (hiz), 7 VCC (power), 8 1Y5 (hiz), 9 1Y6 (hiz), 10 GND (power), 11 1Y7 (hiz), 12 1Y8 (hiz), 13 2Y1 (hiz), 14 2Y2 (hiz), 15 GND (power), 16 2Y3 (hiz), 17 2Y4 (hiz), 18 VCC (power), 19 2Y5 (hiz), 20 2Y6 (hiz), 21 GND (power), 22 2Y7 (hiz), 23 2Y8 (hiz), 24 2~{OE}1 (in), 25 2~{OE}2 (in), 26 2A8 (in), 27 2A7 (in), 28 GND (power), 29 2A6 (in), 30 2A5 (in), 31 VCC (power), 32 2A4 (in), 33 2A3 (in), 34 GND (power), 35 2A2 (in), 36 2A1 (in), 37 1A8 (in), 38 1A7 (in), 39 GND (power), 40 1A6 (in), 41 1A5 (in), 42 VCC (power), 43 1A4 (in), 44 1A3 (in), 45 GND (power), 46 1A2 (in), 47 1A1 (in), 48 1~{OE}2 (in)

## 54ACT16541WD
designator U?
16-Bit Buffer/Driver with 3-State Outputs; Package Information: Latest Revision: Jan-1998; Code - JEDEC: MO-146-AA; Published: 8-Jun-2000; Revision: 17-Jul-2002: Re-released for DXP Platform.; Datasheet: Latest Revision: Apr-1996; Package Reference: WD048; Publisher: Altium Limited
footprint WD048 (DFP; 48 Leads; Body 16.3 x 9.9 mm (LxW max); Pitch 0.635 mm)
signal-integrity model 54ACT16541WD
pins: 1 1~{OE}1 (in), 2 1Y1 (hiz), 3 1Y2 (hiz), 4 GND (power), 5 1Y3 (hiz), 6 1Y4 (hiz), 7 VCC (power), 8 1Y5 (hiz), 9 1Y6 (hiz), 10 GND (power), 11 1Y7 (hiz), 12 1Y8 (hiz), 13 2Y1 (hiz), 14 2Y2 (hiz), 15 GND (power), 16 2Y3 (hiz), 17 2Y4 (hiz), 18 VCC (power), 19 2Y5 (hiz), 20 2Y6 (hiz), 21 GND (power), 22 2Y7 (hiz), 23 2Y8 (hiz), 24 2~{OE}1 (in), 25 2~{OE}2 (in), 26 2A8 (in), 27 2A7 (in), 28 GND (power), 29 2A6 (in), 30 2A5 (in), 31 VCC (power), 32 2A4 (in), 33 2A3 (in), 34 GND (power), 35 2A2 (in), 36 2A1 (in), 37 1A8 (in), 38 1A7 (in), 39 GND (power), 40 1A6 (in), 41 1A5 (in), 42 VCC (power), 43 1A4 (in), 44 1A3 (in), 45 GND (power), 46 1A2 (in), 47 1A1 (in), 48 1~{OE}2 (in)

## 54ACT16825WD
designator U?
18-Bit Buffer/Driver with 3-State Outputs; Package Information: Latest Revision: Jan-1998; Code - JEDEC: MO-146-AB; Published: 8-Jun-2000; Revision: 17-Jul-2002: Re-released for DXP Platform.; Datasheet: Latest Revision: Apr-1996; Package Reference: WD056; Publisher: Altium Limited
footprint WD056 (DFP; 56 Leads; Body 18.8 x 9.9 mm (LxW max); Pitch 0.635 mm)
signal-integrity model 54ACT16825WD
pins: 1 1~{OE}1 (in), 2 1Y1 (hiz), 3 1Y2 (hiz), 4 GND (power), 5 1Y3 (hiz), 6 1Y4 (hiz), 7 VCC (power), 8 1Y5 (hiz), 9 1Y6 (hiz), 10 1Y7 (hiz), 11 GND (power), 12 1Y8 (hiz), 13 1Y9 (hiz), 14 GND (power), 15 GND (power), 16 2Y1 (hiz), 17 2Y2 (hiz), 18 GND (power), 19 2Y3 (hiz), 20 2Y4 (hiz), 21 2Y5 (hiz), 22 VCC (power), 23 2Y6 (hiz), 24 2Y7 (hiz), 25 GND (power), 26 2Y8 (hiz), 27 2Y9 (hiz), 28 2~{OE}1 (in), 29 2~{OE}2 (in), 30 2A9 (in), 31 2A8 (in), 32 GND (power), 33 2A7 (in), 34 2A6 (in), 35 VCC (power), 36 2A5 (in), 37 2A4 (in), 38 2A3 (in), 39 GND (power), 40 2A2 (in), 41 2A1 (in), 42 GND (power), 43 GND (power), 44 1A9 (in), 45 1A8 (in), 46 GND (power), 47 1A7 (in), 48 1A6 (in), 49 1A5 (in), 50 VCC (power), 51 1A4 (in), 52 1A3 (in), 53 GND (power), 54 1A2 (in), 55 1A1 (in), 56 1~{OE}2 (in)

## 54ACT16827WD
designator U?
20-Bit Buffer/Driver with 3-State Outputs; Package Information: Latest Revision: Jan-1998; Code - JEDEC: MO-146-AB; Published: 8-Jun-2000; Revision: 17-Jul-2002: Re-released for DXP Platform.; Datasheet: Latest Revision: Apr-1996; Package Reference: WD056; Publisher: Altium Limited
footprint WD056 (DFP; 56 Leads; Body 18.8 x 9.9 mm (LxW max); Pitch 0.635 mm)
signal-integrity model 54ACT16827WD
pins: 1 1~{OE}1 (in), 2 1Y1 (hiz), 3 1Y2 (hiz), 4 GND (power), 5 1Y3 (hiz), 6 1Y4 (hiz), 7 VCC (power), 8 1Y5 (hiz), 9 1Y6 (hiz), 10 1Y7 (hiz), 11 GND (power), 12 1Y8 (hiz), 13 1Y9 (hiz), 14 1Y10 (hiz), 15 2Y1 (hiz), 16 2Y2 (hiz), 17 2Y3 (hiz), 18 GND (power), 19 2Y4 (hiz), 20 2Y5 (hiz), 21 2Y6 (hiz), 22 VCC (power), 23 2Y7 (hiz), 24 2Y8 (hiz), 25 GND (power), 26 2Y9 (hiz), 27 2Y10 (hiz), 28 2~{OE}1 (in), 29 2~{OE}2 (in), 30 2A10 (in), 31 2A9 (in), 32 GND (power), 33 2A8 (in), 34 2A7 (in), 35 VCC (power), 36 2A6 (in), 37 2A5 (in), 38 2A4 (in), 39 GND (power), 40 2A3 (in), 41 2A2 (in), 42 2A1 (in), 43 1A10 (in), 44 1A9 (in), 45 1A8 (in), 46 GND (power), 47 1A7 (in), 48 1A6 (in), 49 1A5 (in), 50 VCC (power), 51 1A4 (in), 52 1A3 (in), 53 GND (power), 54 1A2 (in), 55 1A1 (in), 56 1~{OE}2 (in)

## 74AC11034DW
designator U?
Hex Non-Inverter; Revision 1: 16-Jan-2001: Symbol size reduced. Output electrical type changed from HiZ to Output.; Revision 2: 17-Jul-2002: Re-released for DXP Platform.; Package Information: Latest Revision: Mar-2000; Code - JEDEC: MS-013; Published: 8-Jun-2000; Datasheet: Latest Revision: Apr-1993; Package Reference: DW020; Publisher: Altium Limited
footprint DW020 (Plastic Small Outline; 20 Leads; Body Width 7.5 mm)
signal-integrity model 74AC11034DW
pins on every part: 4 GND (power) hidden to GND, 5 GND (power) hidden to GND, 6 GND (power) hidden to GND, 7 GND (power) hidden to GND, 15 VCC (power) hidden to VCC, 16 VCC (power) hidden to VCC
part A pins: 1 Y (out), 20 A (in)
part B pins: 2 Y (out), 19 A (in)
part C pins: 3 Y (out), 18 A (in)
part D pins: 8 Y (out), 13 A (in)
part E pins: 9 Y (out), 12 A (in)
part F pins: 10 Y (out), 11 A (in)

## 74AC11034N
designator U?
Hex Non-Inverter; Revision 1: 16-Jan-2001: Symbol size reduced. Output electrical type changed from HiZ to Output.; Revision 2: 17-Jul-2002: Re-released for DXP Platform.; Package Information: Latest Revision: Oct-1995; Published: 8-Jun-2000; Datasheet: Latest Revision: Apr-1993; Package Reference: N020; Publisher: Altium Limited
footprint N020 (DIP; 20 Leads; Row Spacing 7.62 mm; Pitch 2.54 mm)
signal-integrity model 74AC11034N
pins on every part: 4 GND (power) hidden to GND, 5 GND (power) hidden to GND, 6 GND (power) hidden to GND, 7 GND (power) hidden to GND, 15 VCC (power) hidden to VCC, 16 VCC (power) hidden to VCC
part A pins: 1 Y (out), 20 A (in)
part B pins: 2 Y (out), 19 A (in)
part C pins: 3 Y (out), 18 A (in)
part D pins: 8 Y (out), 13 A (in)
part E pins: 9 Y (out), 12 A (in)
part F pins: 10 Y (out), 11 A (in)

## 74AC11240DBLE
designator U?
Octal Buffer/Line Driver with 3-State Outputs; Package Information: Latest Revision: May-1999; Code - JEDEC: MO-150-AG; Published: 8-Jun-2000; Revision: 17-Jul-2002: Re-released for DXP Platform.; Datasheet: Latest Revision: Apr-1996; Package Reference: DB024; Publisher: Altium Limited
footprint DB024 (Plastic SSOP; 24 Leads; Body Width 5.3 mm; Pitch 0.65 mm)
signal-integrity model 74AC11240DBLE
pins on every part: 5 GND (power) hidden to GND, 6 GND (power) hidden to GND, 7 GND (power) hidden to GND, 8 GND (power) hidden to GND, 18 VCC (power) hidden to VCC, 19 VCC (power) hidden to VCC
part A pins: 1 ~{Y}1 (hiz), 2 ~{Y}2 (hiz), 3 ~{Y}3 (hiz), 4 ~{Y}4 (hiz), 20 A4 (in), 21 A3 (in), 22 A2 (in), 23 A1 (in), 24 ~{OE} (in)
part B pins: 9 ~{Y}1 (hiz), 10 ~{Y}2 (hiz), 11 ~{Y}3 (hiz), 12 ~{Y}4 (hiz), 13 ~{OE} (in), 14 A4 (in), 15 A3 (in), 16 A2 (in), 17 A1 (in)

## 74AC11240DW
designator U?
Octal Buffer/Line Driver with 3-State Outputs; Package Information: Latest Revision: Mar-2000; Code - JEDEC: MS-013; Published: 8-Jun-2000; Revision: 17-Jul-2002: Re-released for DXP Platform.; Datasheet: Latest Revision: Apr-1996; Package Reference: DW024; Publisher: Altium Limited
footprint DW024 (Plastic Small Outline; 24 Leads; Body Width 7.5 mm)
signal-integrity model 74AC11240DW
pins on every part: 5 GND (power) hidden to GND, 6 GND (power) hidden to GND, 7 GND (power) hidden to GND, 8 GND (power) hidden to GND, 18 VCC (power) hidden to VCC, 19 VCC (power) hidden to VCC
part A pins: 1 ~{Y}1 (hiz), 2 ~{Y}2 (hiz), 3 ~{Y}3 (hiz), 4 ~{Y}4 (hiz), 20 A4 (in), 21 A3 (in), 22 A2 (in), 23 A1 (in), 24 ~{OE} (in)
part B pins: 9 ~{Y}1 (hiz), 10 ~{Y}2 (hiz), 11 ~{Y}3 (hiz), 12 ~{Y}4 (hiz), 13 ~{OE} (in), 14 A4 (in), 15 A3 (in), 16 A2 (in), 17 A1 (in)

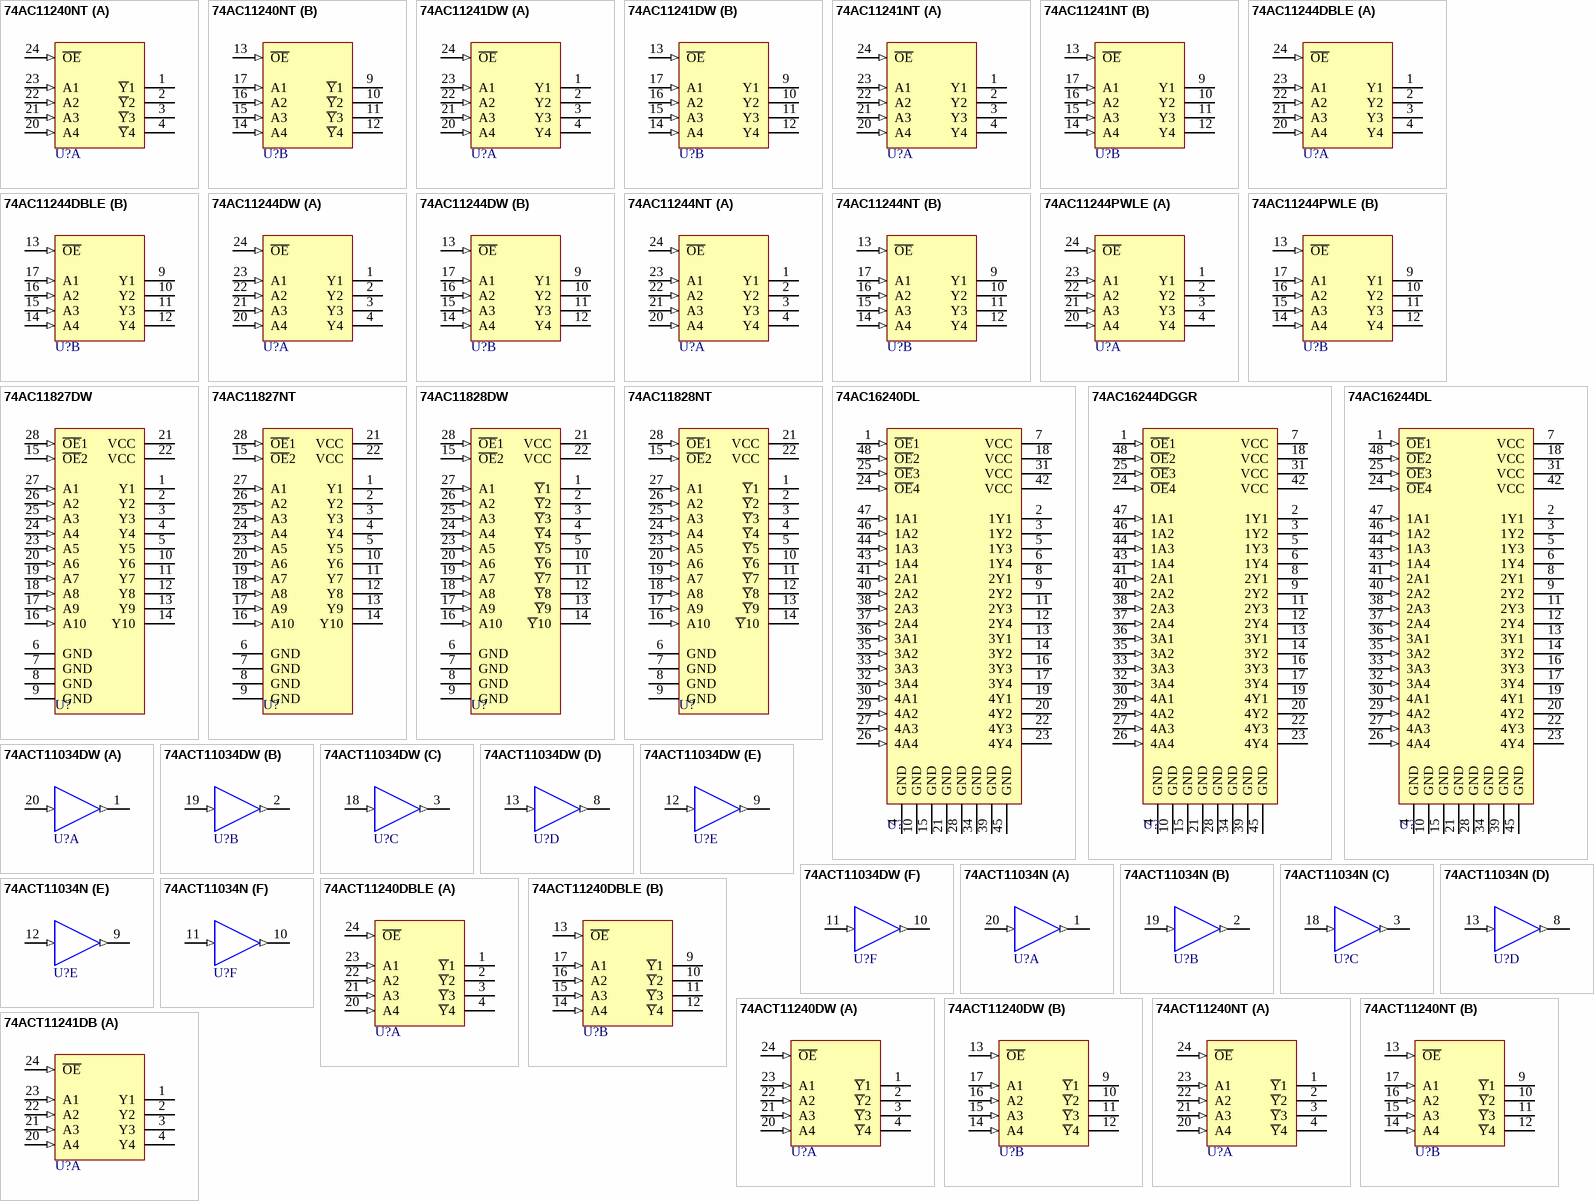
[diagram p2: symbols 74AC11240NT to 74ACT11241DB]

## 74AC11240NT
designator U?
Octal Buffer/Line Driver with 3-State Outputs; Package Information: Latest Revision: Oct-1994; Code - JEDEC: MS-001-AF; Published: 8-Jun-2000; Revision: 17-Jul-2002: Re-released for DXP Platform.; Datasheet: Latest Revision: Apr-1996; Package Reference: NT024; Publisher: Altium Limited
footprint NT024 (DIP; 24 Leads; Row Spacing 7.62 mm; Pitch 2.54 mm)
signal-integrity model 74AC11240NT
pins on every part: 5 GND (power) hidden to GND, 6 GND (power) hidden to GND, 7 GND (power) hidden to GND, 8 GND (power) hidden to GND, 18 VCC (power) hidden to VCC, 19 VCC (power) hidden to VCC
part A pins: 1 ~{Y}1 (hiz), 2 ~{Y}2 (hiz), 3 ~{Y}3 (hiz), 4 ~{Y}4 (hiz), 20 A4 (in), 21 A3 (in), 22 A2 (in), 23 A1 (in), 24 ~{OE} (in)
part B pins: 9 ~{Y}1 (hiz), 10 ~{Y}2 (hiz), 11 ~{Y}3 (hiz), 12 ~{Y}4 (hiz), 13 ~{OE} (in), 14 A4 (in), 15 A3 (in), 16 A2 (in), 17 A1 (in)

## 74AC11241DW
designator U?
Octal Buffer/Line Driver with 3-State Outputs; Package Information: Latest Revision: Mar-2000; Code - JEDEC: MS-013; Published: 8-Jun-2000; Revision: 17-Jul-2002: Re-released for DXP Platform.; Datasheet: Latest Revision: Apr-1993; Package Reference: DW024; Publisher: Altium Limited
footprint DW024 (Plastic Small Outline; 24 Leads; Body Width 7.5 mm)
signal-integrity model 74AC11241DW
pins on every part: 5 GND (power) hidden to GND, 6 GND (power) hidden to GND, 7 GND (power) hidden to GND, 8 GND (power) hidden to GND, 18 VCC (power) hidden to VCC, 19 VCC (power) hidden to VCC
part A pins: 1 Y1 (hiz), 2 Y2 (hiz), 3 Y3 (hiz), 4 Y4 (hiz), 20 A4 (in), 21 A3 (in), 22 A2 (in), 23 A1 (in), 24 ~{OE} (in)
part B pins: 9 Y1 (hiz), 10 Y2 (hiz), 11 Y3 (hiz), 12 Y4 (hiz), 13 ~{OE} (in), 14 A4 (in), 15 A3 (in), 16 A2 (in), 17 A1 (in)

## 74AC11241NT
designator U?
Octal Buffer/Line Driver with 3-State Outputs; Package Information: Latest Revision: Oct-1994; Code - JEDEC: MS-001-AF; Published: 8-Jun-2000; Revision: 17-Jul-2002: Re-released for DXP Platform.; Datasheet: Latest Revision: Apr-1993; Package Reference: NT024; Publisher: Altium Limited
footprint NT024 (DIP; 24 Leads; Row Spacing 7.62 mm; Pitch 2.54 mm)
signal-integrity model 74AC11241NT
pins on every part: 5 GND (power) hidden to GND, 6 GND (power) hidden to GND, 7 GND (power) hidden to GND, 8 GND (power) hidden to GND, 18 VCC (power) hidden to VCC, 19 VCC (power) hidden to VCC
part A pins: 1 Y1 (hiz), 2 Y2 (hiz), 3 Y3 (hiz), 4 Y4 (hiz), 20 A4 (in), 21 A3 (in), 22 A2 (in), 23 A1 (in), 24 ~{OE} (in)
part B pins: 9 Y1 (hiz), 10 Y2 (hiz), 11 Y3 (hiz), 12 Y4 (hiz), 13 ~{OE} (in), 14 A4 (in), 15 A3 (in), 16 A2 (in), 17 A1 (in)

## 74AC11244DBLE
designator U?
Octal Buffer/Driver with 3-State Outputs; Package Information: Latest Revision: May-1999; Code - JEDEC: MO-150-AG; Published: 8-Jun-2000; Revision: 17-Jul-2002: Re-released for DXP Platform.; Datasheet: Latest Revision: Sep-1998; Package Reference: DB024; Publisher: Altium Limited
footprint DB024 (Plastic SSOP; 24 Leads; Body Width 5.3 mm; Pitch 0.65 mm)
signal-integrity model 74AC11244DBLE
pins on every part: 5 GND (power) hidden to GND, 6 GND (power) hidden to GND, 7 GND (power) hidden to GND, 8 GND (power) hidden to GND, 18 VCC (power) hidden to VCC, 19 VCC (power) hidden to VCC
part A pins: 1 Y1 (hiz), 2 Y2 (hiz), 3 Y3 (hiz), 4 Y4 (hiz), 20 A4 (in), 21 A3 (in), 22 A2 (in), 23 A1 (in), 24 ~{OE} (in)
part B pins: 9 Y1 (hiz), 10 Y2 (hiz), 11 Y3 (hiz), 12 Y4 (hiz), 13 ~{OE} (in), 14 A4 (in), 15 A3 (in), 16 A2 (in), 17 A1 (in)

## 74AC11244DW
designator U?
Octal Buffer/Driver with 3-State Outputs; Package Information: Latest Revision: Mar-2000; Code - JEDEC: MS-013; Published: 8-Jun-2000; Revision: 17-Jul-2002: Re-released for DXP Platform.; Datasheet: Latest Revision: Sep-1998; Package Reference: DW024; Publisher: Altium Limited
footprint DW024 (Plastic Small Outline; 24 Leads; Body Width 7.5 mm)
signal-integrity model 74AC11244DW
pins on every part: 5 GND (power) hidden to GND, 6 GND (power) hidden to GND, 7 GND (power) hidden to GND, 8 GND (power) hidden to GND, 18 VCC (power) hidden to VCC, 19 VCC (power) hidden to VCC
part A pins: 1 Y1 (hiz), 2 Y2 (hiz), 3 Y3 (hiz), 4 Y4 (hiz), 20 A4 (in), 21 A3 (in), 22 A2 (in), 23 A1 (in), 24 ~{OE} (in)
part B pins: 9 Y1 (hiz), 10 Y2 (hiz), 11 Y3 (hiz), 12 Y4 (hiz), 13 ~{OE} (in), 14 A4 (in), 15 A3 (in), 16 A2 (in), 17 A1 (in)

## 74AC11244NT
designator U?
Octal Buffer/Driver with 3-State Outputs; Package Information: Latest Revision: Oct-1994; Code - JEDEC: MS-001-AF; Published: 8-Jun-2000; Revision: 17-Jul-2002: Re-released for DXP Platform.; Datasheet: Latest Revision: Sep-1998; Package Reference: NT024; Publisher: Altium Limited
footprint NT024 (DIP; 24 Leads; Row Spacing 7.62 mm; Pitch 2.54 mm)
signal-integrity model 74AC11244NT
pins on every part: 5 GND (power) hidden to GND, 6 GND (power) hidden to GND, 7 GND (power) hidden to GND, 8 GND (power) hidden to GND, 18 VCC (power) hidden to VCC, 19 VCC (power) hidden to VCC
part A pins: 1 Y1 (hiz), 2 Y2 (hiz), 3 Y3 (hiz), 4 Y4 (hiz), 20 A4 (in), 21 A3 (in), 22 A2 (in), 23 A1 (in), 24 ~{OE} (in)
part B pins: 9 Y1 (hiz), 10 Y2 (hiz), 11 Y3 (hiz), 12 Y4 (hiz), 13 ~{OE} (in), 14 A4 (in), 15 A3 (in), 16 A2 (in), 17 A1 (in)

## 74AC11244PWLE
designator U?
Octal Buffer/Driver with 3-State Outputs; Package Information: Latest Revision: Feb-1999; Published: 8-Jun-2000; Revision: 17-Jul-2002: Re-released for DXP Platform.; Datasheet: Latest Revision: Sep-1998; Package Reference: PW024; Publisher: Altium Limited
footprint PW024 (Shrink Small Outline; 24 Leads; Body Width 4.4 mm; Pitch 0.65 mm)
signal-integrity model 74AC11244PWLE
pins on every part: 5 GND (power) hidden to GND, 6 GND (power) hidden to GND, 7 GND (power) hidden to GND, 8 GND (power) hidden to GND, 18 VCC (power) hidden to VCC, 19 VCC (power) hidden to VCC
part A pins: 1 Y1 (hiz), 2 Y2 (hiz), 3 Y3 (hiz), 4 Y4 (hiz), 20 A4 (in), 21 A3 (in), 22 A2 (in), 23 A1 (in), 24 ~{OE} (in)
part B pins: 9 Y1 (hiz), 10 Y2 (hiz), 11 Y3 (hiz), 12 Y4 (hiz), 13 ~{OE} (in), 14 A4 (in), 15 A3 (in), 16 A2 (in), 17 A1 (in)

## 74AC11827DW
designator U?
10-Bit Buffer/Bus Driver with 3-State Outputs; Package Information: Latest Revision: Mar-2000; Code - JEDEC: MS-013; Published: 8-Jun-2000; Revision: 17-Jul-2002: Re-released for DXP Platform.; Datasheet: 1990 Advanced CMOS Logic Data Book (Mar-1990); Package Reference: DW028; Publisher: Altium Limited
footprint DW028 (Plastic Small Outline; 28 Leads; Body Width 7.5 mm)
signal-integrity model 74AC11827DW
pins: 1 Y1 (hiz), 2 Y2 (hiz), 3 Y3 (hiz), 4 Y4 (hiz), 5 Y5 (hiz), 6 GND (power), 7 GND (power), 8 GND (power), 9 GND (power), 10 Y6 (hiz), 11 Y7 (hiz), 12 Y8 (hiz), 13 Y9 (hiz), 14 Y10 (hiz), 15 ~{OE}2 (in), 16 A10 (in), 17 A9 (in), 18 A8 (in), 19 A7 (in), 20 A6 (in), 21 VCC (power), 22 VCC (power), 23 A5 (in), 24 A4 (in), 25 A3 (in), 26 A2 (in), 27 A1 (in), 28 ~{OE}1 (in)

## 74AC11827NT
designator U?
10-Bit Buffer/Bus Driver with 3-State Outputs; Package Information: Latest Revision: Oct-1994; Published: 8-Jun-2000; Revision: 17-Jul-2002: Re-released for DXP Platform.; Datasheet: 1990 Advanced CMOS Logic Data Book (Mar-1990); Package Reference: NT028D; Publisher: Altium Limited
footprint NT028D (DIP; 28 Leads; Row Spacing 7.62 mm; Pitch 2.54 mm)
signal-integrity model 74AC11827NT
pins: 1 Y1 (hiz), 2 Y2 (hiz), 3 Y3 (hiz), 4 Y4 (hiz), 5 Y5 (hiz), 6 GND (power), 7 GND (power), 8 GND (power), 9 GND (power), 10 Y6 (hiz), 11 Y7 (hiz), 12 Y8 (hiz), 13 Y9 (hiz), 14 Y10 (hiz), 15 ~{OE}2 (in), 16 A10 (in), 17 A9 (in), 18 A8 (in), 19 A7 (in), 20 A6 (in), 21 VCC (power), 22 VCC (power), 23 A5 (in), 24 A4 (in), 25 A3 (in), 26 A2 (in), 27 A1 (in), 28 ~{OE}1 (in)

## 74AC11828DW
designator U?
10-Bit Buffer/Line Driver with 3-State Outputs; Package Information: Latest Revision: Mar-2000; Code - JEDEC: MS-013; Published: 8-Jun-2000; Revision: 17-Jul-2002: Re-released for DXP Platform.; Datasheet: Latest Revision: Apr-1993; Package Reference: DW028; Publisher: Altium Limited
footprint DW028 (Plastic Small Outline; 28 Leads; Body Width 7.5 mm)
signal-integrity model 74AC11828DW
pins: 1 ~{Y}1 (hiz), 2 ~{Y}2 (hiz), 3 ~{Y}3 (hiz), 4 ~{Y}4 (hiz), 5 ~{Y}5 (hiz), 6 GND (power), 7 GND (power), 8 GND (power), 9 GND (power), 10 ~{Y}6 (hiz), 11 ~{Y}7 (hiz), 12 ~{Y}8 (hiz), 13 ~{Y}9 (hiz), 14 ~{Y}10 (hiz), 15 ~{OE}2 (in), 16 A10 (in), 17 A9 (in), 18 A8 (in), 19 A7 (in), 20 A6 (in), 21 VCC (power), 22 VCC (power), 23 A5 (in), 24 A4 (in), 25 A3 (in), 26 A2 (in), 27 A1 (in), 28 ~{OE}1 (in)

## 74AC11828NT
designator U?
10-Bit Buffer/Line Driver with 3-State Outputs; Package Information: Latest Revision: Oct-1994; Published: 8-Jun-2000; Revision: 17-Jul-2002: Re-released for DXP Platform.; Datasheet: Latest Revision: Apr-1993; Package Reference: NT028; Publisher: Altium Limited
footprint NT028 (DIP; 28 Leads; Row Spacing 7.62 mm; Pitch 2.54 mm)
signal-integrity model 74AC11828NT
pins: 1 ~{Y}1 (hiz), 2 ~{Y}2 (hiz), 3 ~{Y}3 (hiz), 4 ~{Y}4 (hiz), 5 ~{Y}5 (hiz), 6 GND (power), 7 GND (power), 8 GND (power), 9 GND (power), 10 ~{Y}6 (hiz), 11 ~{Y}7 (hiz), 12 ~{Y}8 (hiz), 13 ~{Y}9 (hiz), 14 ~{Y}10 (hiz), 15 ~{OE}2 (in), 16 A10 (in), 17 A9 (in), 18 A8 (in), 19 A7 (in), 20 A6 (in), 21 VCC (power), 22 VCC (power), 23 A5 (in), 24 A4 (in), 25 A3 (in), 26 A2 (in), 27 A1 (in), 28 ~{OE}1 (in)

## 74AC16240DL
designator U?
16-Bit Bus Driver with 3-State Outputs; Package Information: Latest Revision: Jan-1998; Code - JEDEC: MO-118-AA; Code - IPC: SSO48; Published: 8-Jun-2000; Revision: 17-Jul-2002: Re-released for DXP Platform.; Datasheet: Latest Revision: Oct-1996; Package Reference: DL048; Publisher: Altium Limited
footprint DL048 (SSOP; 48 Leads; Body Width 7.5 mm; Pitch 0.635 mm)
signal-integrity model 74AC16240DL
pins: 1 ~{OE}1 (in), 2 1Y1 (hiz), 3 1Y2 (hiz), 4 GND (power), 5 1Y3 (hiz), 6 1Y4 (hiz), 7 VCC (power), 8 2Y1 (hiz), 9 2Y2 (hiz), 10 GND (power), 11 2Y3 (hiz), 12 2Y4 (hiz), 13 3Y1 (hiz), 14 3Y2 (hiz), 15 GND (power), 16 3Y3 (hiz), 17 3Y4 (hiz), 18 VCC (power), 19 4Y1 (hiz), 20 4Y2 (hiz), 21 GND (power), 22 4Y3 (hiz), 23 4Y4 (hiz), 24 ~{OE}4 (in), 25 ~{OE}3 (in), 26 4A4 (in), 27 4A3 (in), 28 GND (power), 29 4A2 (in), 30 4A1 (in), 31 VCC (power), 32 3A4 (in), 33 3A3 (in), 34 GND (power), 35 3A2 (in), 36 3A1 (in), 37 2A4 (in), 38 2A3 (in), 39 GND (power), 40 2A2 (in), 41 2A1 (in), 42 VCC (power), 43 1A4 (in), 44 1A3 (in), 45 GND (power), 46 1A2 (in), 47 1A1 (in), 48 ~{OE}2 (in)

## 74AC16244DGGR
designator U?
16-Bit Buffer/Line Driver with 3-State Outputs; Package Information: Latest Revision: Jan-1998; Published: 8-Jun-2000; Revision: 17-Jul-2002: Re-released for DXP Platform.; Datasheet: Latest Revision: Apr-1996; Package Reference: DGG048; Publisher: Altium Limited
footprint DGG048 (Shrink Small Outline; 48 Leads; Body Width 6.1 mm; Pitch 0.5 mm)
signal-integrity model 74AC16244DGGR
pins: 1 ~{OE}1 (in), 2 1Y1 (hiz), 3 1Y2 (hiz), 4 GND (power), 5 1Y3 (hiz), 6 1Y4 (hiz), 7 VCC (power), 8 2Y1 (hiz), 9 2Y2 (hiz), 10 GND (power), 11 2Y3 (hiz), 12 2Y4 (hiz), 13 3Y1 (hiz), 14 3Y2 (hiz), 15 GND (power), 16 3Y3 (hiz), 17 3Y4 (hiz), 18 VCC (power), 19 4Y1 (hiz), 20 4Y2 (hiz), 21 GND (power), 22 4Y3 (hiz), 23 4Y4 (hiz), 24 ~{OE}4 (in), 25 ~{OE}3 (in), 26 4A4 (in), 27 4A3 (in), 28 GND (power), 29 4A2 (in), 30 4A1 (in), 31 VCC (power), 32 3A4 (in), 33 3A3 (in), 34 GND (power), 35 3A2 (in), 36 3A1 (in), 37 2A4 (in), 38 2A3 (in), 39 GND (power), 40 2A2 (in), 41 2A1 (in), 42 VCC (power), 43 1A4 (in), 44 1A3 (in), 45 GND (power), 46 1A2 (in), 47 1A1 (in), 48 ~{OE}2 (in)

## 74AC16244DL
designator U?
16-Bit Buffer/Line Driver with 3-State Outputs; Package Information: Latest Revision: Jan-1998; Code - JEDEC: MO-118-AA; Code - IPC: SSO48; Published: 8-Jun-2000; Revision: 17-Jul-2002: Re-released for DXP Platform.; Datasheet: Latest Revision: Apr-1996; Package Reference: DL048; Publisher: Altium Limited
footprint DL048 (SSOP; 48 Leads; Body Width 7.5 mm; Pitch 0.635 mm)
signal-integrity model 74AC16244DL
pins: 1 ~{OE}1 (in), 2 1Y1 (hiz), 3 1Y2 (hiz), 4 GND (power), 5 1Y3 (hiz), 6 1Y4 (hiz), 7 VCC (power), 8 2Y1 (hiz), 9 2Y2 (hiz), 10 GND (power), 11 2Y3 (hiz), 12 2Y4 (hiz), 13 3Y1 (hiz), 14 3Y2 (hiz), 15 GND (power), 16 3Y3 (hiz), 17 3Y4 (hiz), 18 VCC (power), 19 4Y1 (hiz), 20 4Y2 (hiz), 21 GND (power), 22 4Y3 (hiz), 23 4Y4 (hiz), 24 ~{OE}4 (in), 25 ~{OE}3 (in), 26 4A4 (in), 27 4A3 (in), 28 GND (power), 29 4A2 (in), 30 4A1 (in), 31 VCC (power), 32 3A4 (in), 33 3A3 (in), 34 GND (power), 35 3A2 (in), 36 3A1 (in), 37 2A4 (in), 38 2A3 (in), 39 GND (power), 40 2A2 (in), 41 2A1 (in), 42 VCC (power), 43 1A4 (in), 44 1A3 (in), 45 GND (power), 46 1A2 (in), 47 1A1 (in), 48 ~{OE}2 (in)

## 74ACT11034DW
designator U?
Hex Non-Inverter; Revision 1: 16-Jan-2001: Symbol size reduced. Output electrical type changed from HiZ to Output.; Revision 2: 17-Jul-2002: Re-released for DXP Platform.; Package Information: Latest Revision: Mar-2000; Code - JEDEC: MS-013; Published: 8-Jun-2000; Datasheet: Latest Revision: Apr-1993; Package Reference: DW020; Publisher: Altium Limited
footprint DW020 (Plastic Small Outline; 20 Leads; Body Width 7.5 mm)
signal-integrity model 74ACT11034DW
pins on every part: 4 GND (power) hidden to GND, 5 GND (power) hidden to GND, 6 GND (power) hidden to GND, 7 GND (power) hidden to GND, 15 VCC (power) hidden to VCC, 16 VCC (power) hidden to VCC
part A pins: 1 Y (out), 20 A (in)
part B pins: 2 Y (out), 19 A (in)
part C pins: 3 Y (out), 18 A (in)
part D pins: 8 Y (out), 13 A (in)
part E pins: 9 Y (out), 12 A (in)
part F pins: 10 Y (out), 11 A (in)

## 74ACT11034N
designator U?
Hex Non-Inverter; Revision 1: 16-Jan-2001: Symbol size reduced. Output electrical type changed from HiZ to Output.; Revision 2: 17-Jul-2002: Re-released for DXP Platform.; Package Information: Latest Revision: Oct-1995; Published: 8-Jun-2000; Datasheet: Latest Revision: Apr-1993; Package Reference: N020; Publisher: Altium Limited
footprint N020 (DIP; 20 Leads; Row Spacing 7.62 mm; Pitch 2.54 mm)
signal-integrity model 74ACT11034N
pins on every part: 4 GND (power) hidden to GND, 5 GND (power) hidden to GND, 6 GND (power) hidden to GND, 7 GND (power) hidden to GND, 15 VCC (power) hidden to VCC, 16 VCC (power) hidden to VCC
part A pins: 1 Y (out), 20 A (in)
part B pins: 2 Y (out), 19 A (in)
part C pins: 3 Y (out), 18 A (in)
part D pins: 8 Y (out), 13 A (in)
part E pins: 9 Y (out), 12 A (in)
part F pins: 10 Y (out), 11 A (in)

## 74ACT11240DBLE
designator U?
Octal Buffer/Line Driver with 3-State Outputs; Package Information: Latest Revision: May-1999; Code - JEDEC: MO-150-AG; Published: 8-Jun-2000; Revision: 17-Jul-2002: Re-released for DXP Platform.; Datasheet: Latest Revision: Apr-1996; Package Reference: DB024; Publisher: Altium Limited
footprint DB024 (Plastic SSOP; 24 Leads; Body Width 5.3 mm; Pitch 0.65 mm)
signal-integrity model 74ACT11240DBLE
pins on every part: 5 GND (power) hidden to GND, 6 GND (power) hidden to GND, 7 GND (power) hidden to GND, 8 GND (power) hidden to GND, 18 VCC (power) hidden to VCC, 19 VCC (power) hidden to VCC
part A pins: 1 ~{Y}1 (hiz), 2 ~{Y}2 (hiz), 3 ~{Y}3 (hiz), 4 ~{Y}4 (hiz), 20 A4 (in), 21 A3 (in), 22 A2 (in), 23 A1 (in), 24 ~{OE} (in)
part B pins: 9 ~{Y}1 (hiz), 10 ~{Y}2 (hiz), 11 ~{Y}3 (hiz), 12 ~{Y}4 (hiz), 13 ~{OE} (in), 14 A4 (in), 15 A3 (in), 16 A2 (in), 17 A1 (in)

## 74ACT11240DW
designator U?
Octal Buffer/Line Driver with 3-State Outputs; Package Information: Latest Revision: Mar-2000; Code - JEDEC: MS-013; Published: 8-Jun-2000; Revision: 17-Jul-2002: Re-released for DXP Platform.; Datasheet: Latest Revision: Apr-1996; Package Reference: DW024; Publisher: Altium Limited
footprint DW024 (Plastic Small Outline; 24 Leads; Body Width 7.5 mm)
signal-integrity model 74ACT11240DW
pins on every part: 5 GND (power) hidden to GND, 6 GND (power) hidden to GND, 7 GND (power) hidden to GND, 8 GND (power) hidden to GND, 18 VCC (power) hidden to VCC, 19 VCC (power) hidden to VCC
part A pins: 1 ~{Y}1 (hiz), 2 ~{Y}2 (hiz), 3 ~{Y}3 (hiz), 4 ~{Y}4 (hiz), 20 A4 (in), 21 A3 (in), 22 A2 (in), 23 A1 (in), 24 ~{OE} (in)
part B pins: 9 ~{Y}1 (hiz), 10 ~{Y}2 (hiz), 11 ~{Y}3 (hiz), 12 ~{Y}4 (hiz), 13 ~{OE} (in), 14 A4 (in), 15 A3 (in), 16 A2 (in), 17 A1 (in)